# Altium schematic symbol library 691 334 500 0xx.SchLib: 6 symbols
Pins are listed as number, name and electrical type; pins without a type are passive.

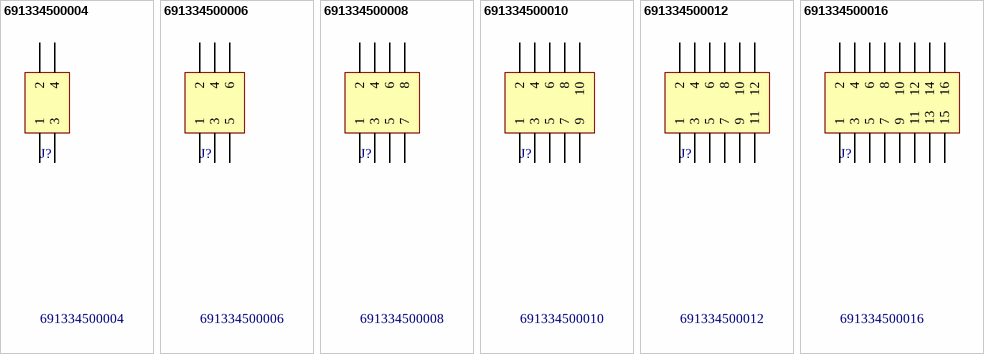
[diagram p0: symbols 691334500004 to 691334500016]

## 691334500004
designator J?
WR-TBL Terminal Blocks Serie 3345 - 5.08 mm with Flanges & Nut Type; Manufacturer: Würth Elektronik eiSos GmbH; ComponentLink1 Description: Manufacturer; ComponentLink2 Description: Datasheet; NoPins: 04; Created Date: 25 March 2014; partNo: 691334500004; ComponentLink1URL: http://www.we-online.com; ComponentLink2URL: http://katalog.we-online.de/em/datasheet/6913345000xx.pdf; Created by: Karrer Zheng; Value: 691334500004
footprint 691334500004 (5,08mm - PCB - Dual row - Vertical - Flanges - 04p)
pins: 1, 2, 3, 4

## 691334500006
designator J?
WR-TBL Terminal Blocks Serie 3345 - 5.08 mm with Flanges & Nut Type; Manufacturer: Würth Elektronik eiSos GmbH; ComponentLink1 Description: Manufacturer; ComponentLink2 Description: Datasheet; NoPins: 06; Created Date: 25 March 2014; partNo: 691334500006; ComponentLink1URL: http://www.we-online.com; ComponentLink2URL: http://katalog.we-online.de/em/datasheet/6913345000xx.pdf; Created by: Karrer Zheng; Value: 691334500006
footprint 691334500006 (5,08mm - PCB - Dual row - Vertical - Flanges - 06p)
pins: 1, 2, 3, 4, 5, 6

## 691334500008
designator J?
WR-TBL Terminal Blocks Serie 3345 - 5.08 mm with Flanges & Nut Type; Manufacturer: Würth Elektronik eiSos GmbH; ComponentLink1 Description: Manufacturer; ComponentLink2 Description: Datasheet; NoPins: 08; Created Date: 25 March 2014; partNo: 691334500008; ComponentLink1URL: http://www.we-online.com; ComponentLink2URL: http://katalog.we-online.de/em/datasheet/6913345000xx.pdf; Created by: Karrer Zheng; Value: 691334500008
footprint 691334500008 (5,08mm - PCB - Dual row - Vertical - Flanges - 04p)
pins: 1, 2, 3, 4, 5, 6, 7, 8

## 691334500010
designator J?
WR-TBL Terminal Blocks Serie 3345 - 5.08 mm with Flanges & Nut Type; Manufacturer: Würth Elektronik eiSos GmbH; ComponentLink1 Description: Manufacturer; ComponentLink2 Description: Datasheet; NoPins: 10; Created Date: 25 March 2014; partNo: 691334500010; ComponentLink1URL: http://www.we-online.com; ComponentLink2URL: http://katalog.we-online.de/em/datasheet/6913345000xx.pdf; Created by: Karrer Zheng; Value: 691334500010
footprint 691334500010 (5,08mm - PCB - Dual row - Vertical - Flanges - 10p)
pins: 1, 2, 3, 4, 5, 6, 7, 8, 9, 10

## 691334500012
designator J?
WR-TBL Terminal Blocks Serie 3345 - 5.08 mm with Flanges & Nut Type; Manufacturer: Würth Elektronik eiSos GmbH; ComponentLink1 Description: Manufacturer; ComponentLink2 Description: Datasheet; NoPins: 12; Created Date: 25 March 2014; partNo: 691334500012; ComponentLink1URL: http://www.we-online.com; ComponentLink2URL: http://katalog.we-online.de/em/datasheet/6913345000xx.pdf; Created by: Karrer Zheng; Value: 691334500012
footprint 691334500012 (5,08mm - PCB - Dual row - Vertical - Flanges - 12p)
pins: 1, 2, 3, 4, 5, 6, 7, 8, 9, 10, 11, 12

## 691334500016
designator J?
WR-TBL Terminal Blocks Serie 3345 - 5.08 mm with Flanges & Nut Type; Manufacturer: Würth Elektronik eiSos GmbH; ComponentLink1 Description: Manufacturer; ComponentLink2 Description: Datasheet; NoPins: 16; Created Date: 25 March 2014; partNo: 691334500016; ComponentLink1URL: http://www.we-online.com; ComponentLink2URL: http://katalog.we-online.de/em/datasheet/6913345000xx.pdf; Created by: Karrer Zheng; Value: 691334500016
footprint 691334500016 (5,08mm - PCB - Dual row - Vertical - Flanges - 16p)
pins: 1, 2, 3, 4, 5, 6, 7, 8, 9, 10, 11, 12, 13, 14, 15, 16